# EAGLE library part X9C102 (library 1A-meinLib)
E^2POT, Nonvolatile Digital Potentiometer. Digitales Potentiometer, 99 Elemente, Xicor
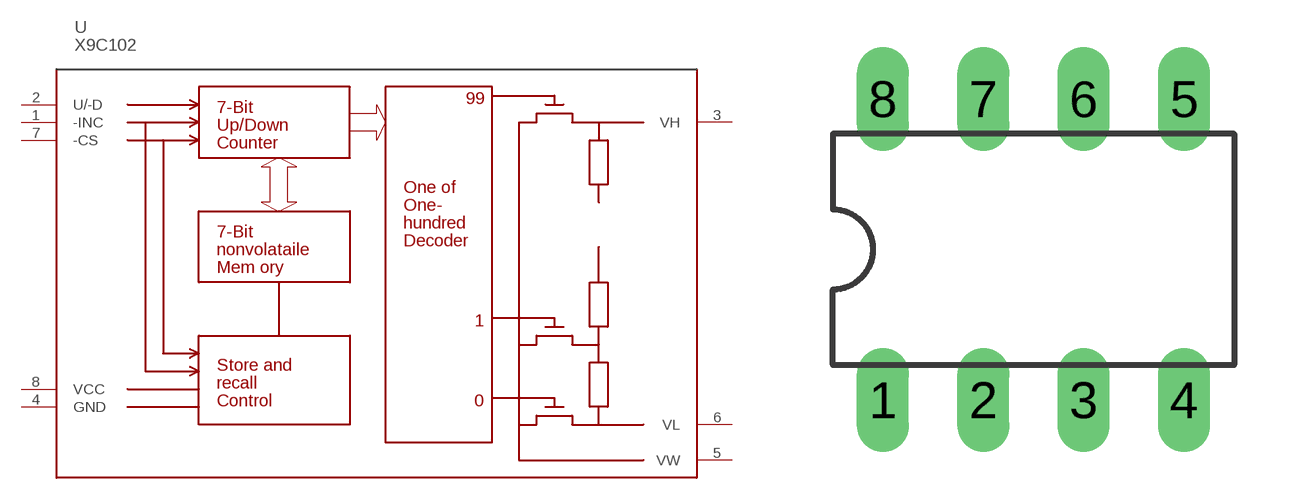
[diagram p28: symbol with the pads of DIL08; footprint DIL08]

Designator prefix U

## X9C102  [DIL08]
1  -INC
2  U/-D
3  VH
4  GND
5  VW
6  VL
7  -CS
8  VCC

## Footprint DIL08 (pad centres in mm)
Dual In Line Package
drill 0.813 long: 1 -3.81,-3.81; 2 -1.27,-3.81; 3 1.27,-3.81; 4 3.81,-3.81; 5 3.81,3.81; 6 1.27,3.81; 7 -1.27,3.81; 8 -3.81,3.81